# Altium schematic symbol library Schlib1.SchLib: 3 symbols
Pins are listed as number, name and electrical type; pins without a type are passive.

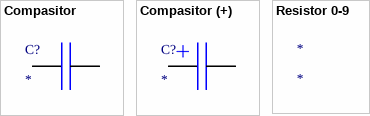
[diagram p0: symbols Compasitor to Resistor 0-9]

## Compasitor
designator C?
pins: 1, 2

## Compasitor (+)
designator C?
pins: 1, 2

## Resistor 0-9
designator *